# Altium footprint library Vishay Sprague Tantalum Triple-Lead Capacitor.PcbLib: 6 footprints
Each footprint in its own frame and in the unit in brackets; x right, y up, seen from the top. Pads: shape width x height; smd on the part's side, far side on the other; paste and mask are expansions set on the pad; w line width, h text height; cw(c..) or ccw(c..) is an arc to the next point about the centre after c.
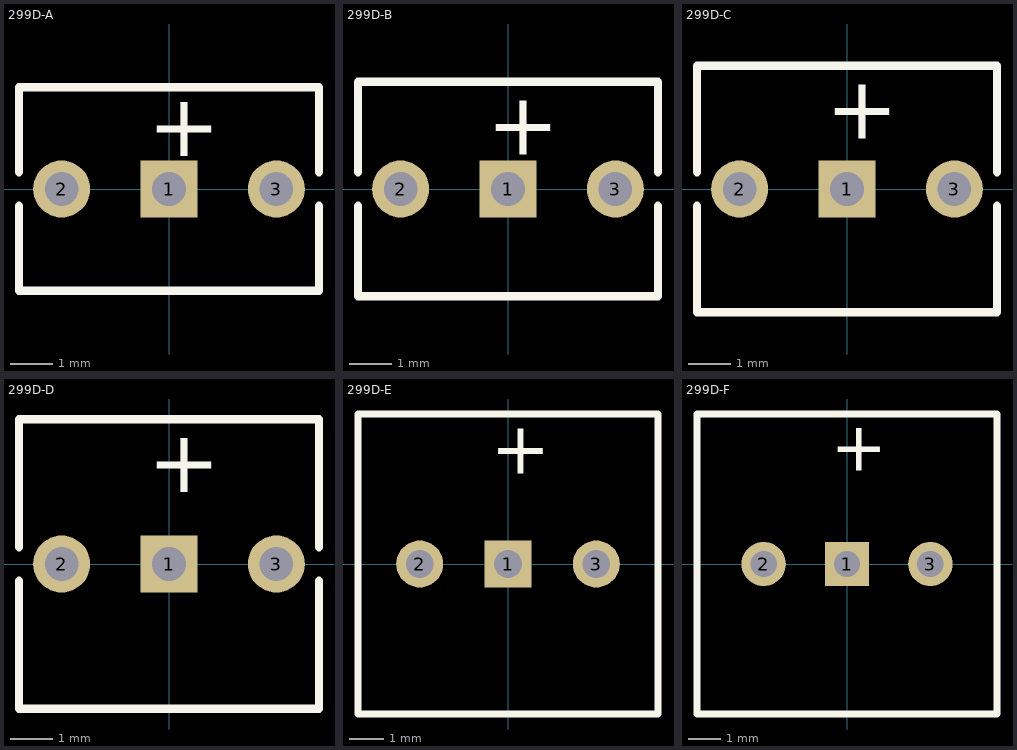
[diagram p0: the footprints below, top view; thin cyan lines are the x and y axes]

## 299D-A [mm] "Capacitor, Tantalum Bead, Triple Lead; Body 7.1 x 4.82 x 9.14 mm (WxTxH max); Pin Spacing 2.54 mm (typ)"
height 9.14
pads (3):
  rect 1.35x1.35 hole 0.8: 1(0,0)
  round 1.35 hole 0.8: 2(-2.54,0) 3(2.54,0)
Top Overlay:
  lines w0.2: -3.55,-0.4 -3.55,-2.41 3.55,-2.41 3.55,-0.4 ; -3.55,0.4 -3.55,2.41 3.55,2.41 3.55,0.4
  text "+" at -0.5,0.778 h1.5

## 299D-B [mm] "Capacitor, Tantalum Bead, Triple Lead; Body 7.1 x 5.08 x 9.14 mm (WxTxH max); Pin Spacing 2.54 mm (typ)"
height 9.14
pads (3):
  rect 1.35x1.35 hole 0.8: 1(0,0)
  round 1.35 hole 0.8: 2(-2.54,0) 3(2.54,0)
Top Overlay:
  lines w0.2: -3.55,-0.4 -3.55,-2.54 3.55,-2.54 3.55,-0.4 ; -3.55,0.4 -3.55,2.54 3.55,2.54 3.55,0.4
  text "+" at -0.5,0.81 h1.5

## 299D-C [mm] "Capacitor, Tantalum Bead, Triple Lead; Body 7.1 x 5.84 x 9.65 mm (WxTxH max); Pin Spacing 2.54 mm (typ)"
height 9.65
pads (3):
  rect 1.35x1.35 hole 0.8: 1(0,0)
  round 1.35 hole 0.8: 2(-2.54,0) 3(2.54,0)
Top Overlay:
  lines w0.2: -3.55,-0.4 -3.55,-2.92 3.55,-2.92 3.55,-0.4 ; -3.55,0.4 -3.55,2.92 3.55,2.92 3.55,0.4
  text "+" at -0.5,1.19 h1.5

## 299D-D [mm] "Capacitor, Tantalum Bead, Triple Lead; Body 7.1 x 6.85 x 11.17 mm (WxTxH max); Pin Spacing 2.54 mm (typ)"
height 11.17
pads (3):
  rect 1.35x1.35 hole 0.8: 1(0,0)
  round 1.35 hole 0.8: 2(-2.54,0) 3(2.54,0)
Top Overlay:
  lines w0.2: -3.55,-0.4 -3.55,-3.425 3.55,-3.425 3.55,-0.4 ; -3.55,0.4 -3.55,3.425 3.55,3.425 3.55,0.4
  text "+" at -0.5,1.7 h1.5

## 299D-E [mm] "Capacitor, Tantalum Bead, Triple Lead; Body 8.63 x 8.63 x 14.22 mm (WxTxH max); Pin Spacing 2.54 mm (typ)"
height 14.22
pads (3):
  rect 1.35x1.35 hole 0.8: 1(0,0)
  round 1.35 hole 0.8: 2(-2.54,0) 3(2.54,0)
Top Overlay:
  lines w0.2: -4.315,-4.315 4.315,-4.315 4.315,4.315 -4.315,4.315 -4.315,-4.315
  text "+" at -0.5,2.59 h1.5

## 299D-F [mm] "Capacitor, Tantalum Bead, Triple Lead; Body 9.14 x 9.14 x 15.74 mm (WxTxH max); Pin Spacing 2.54 mm (typ)"
height 15.74
pads (3):
  rect 1.35x1.35 hole 0.8: 1(0,0)
  round 1.35 hole 0.8: 2(-2.54,0) 3(2.54,0)
Top Overlay:
  lines w0.2: -4.57,-4.57 -4.57,4.57 4.57,4.57 4.57,-4.57 -4.57,-4.57
  text "+" at -0.499,2.84 h1.5